# EAGLE library part MICRO_USB3065_GCT (library daGloane)
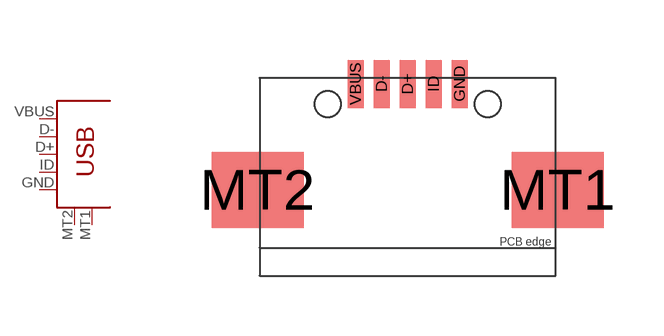
[diagram p11: symbol with the pads of USB3065_GCT; footprint USB3065_GCT]

Designator prefix -

## MICRO_USB3065_GCT  [USB3065_GCT]
D+  D+
D-  D-
GND  GND
ID  ID
MT1  MTN2  nc
MT2  MTN1  nc
VBUS  VBUS

## Footprint USB3065_GCT (pad centres in mm)
smd 0.4 x 1.2: D+ 0,2.65; D- -0.65,2.65; GND 1.3,2.65; ID 0.65,2.65; VBUS -1.3,2.65
smd 2.3 x 1.9: MT1 3.75,0; MT2 -3.75,0
hole 0.65 at -2,2.15
hole 0.65 at 2,2.15